# Altium schematic symbol library MAG3110.SchLib: 1 symbol
Pins are listed as number, name and electrical type; pins without a type are passive.

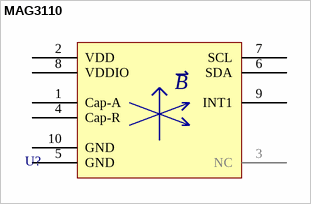
[diagram p0: symbol MAG3110]

## MAG3110
designator U?  (value not drawn)
pins: 1 Cap-A, 2 VDD, 3 NC, 4 Cap-R, 5 GND, 6 SDA, 7 SCL, 8 VDDIO, 9 INT1, 10 GND
text: B